# Altium footprint library 0603p.PcbLib: 1 footprints
Each footprint in its own frame and in the unit in brackets; x right, y up, seen from the top. Pads: shape width x height; smd on the part's side, far side on the other; paste and mask are expansions set on the pad; w line width, h text height; cw(c..) or ccw(c..) is an arc to the next point about the centre after c.
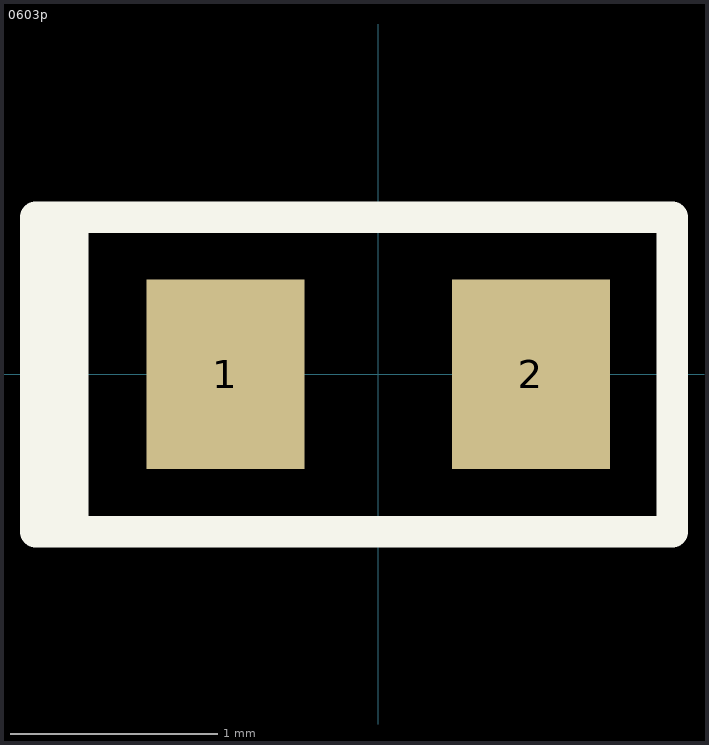
[diagram p0: the footprint, top view; thin cyan lines are the x and y axes]

## 0603p [mil] "Chip Capacitor; Body 1.6 x 0.8 mm (LxW typ) polarized"
height 34.25
pads (2):
  rect 30x35.98 smd: 1(-29,0) 2(29,0)
Top Overlay:
  rectangle: -65,-29.84 -55,30
  lines w6: -65,-29.84 -65,29.84 55.83,29.84 55.83,-29.84 -65,-29.84
3D body: height 0, standoff 0, extent -55.83,-29.84 55.83,29.84
3D body "CAPACITOR 0603.step": height 11.89, standoff 0, extent -31.49,-15.74 31.5,15.75